# Altium footprint library SHDR4W64P0X254_1X4_1016X580X1170P.PcbLib: 1 footprints
Each footprint in its own frame and in the unit in brackets; x right, y up, seen from the top. Pads: shape width x height; smd on the part's side, far side on the other; paste and mask are expansions set on the pad; w line width, h text height; cw(c..) or ccw(c..) is an arc to the next point about the centre after c.
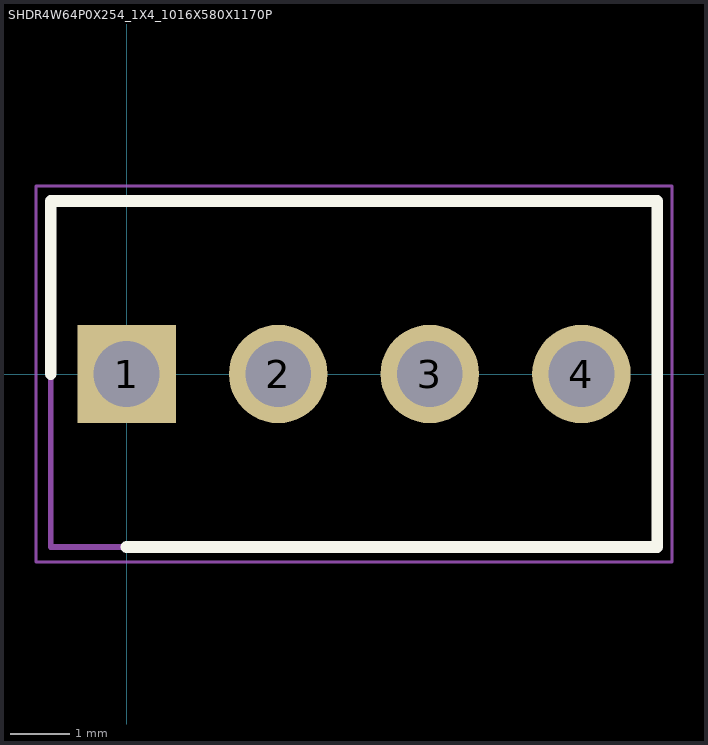
[diagram p0: the footprint, top view; thin cyan lines are the x and y axes]

## SHDR4W64P0X254_1X4_1016X580X1170P [mm]
pads (4):
  rect 1.65x1.65 / inner round 1.65 / far side rect 1.65x1.65 hole 1.1: 1(0,0)
  round 1.65 hole 1.1: 2(2.54,0) 3(5.08,0) 4(7.62,0)
Top Overlay:
  lines w0.2: -1.27,0 -1.27,2.9 8.89,2.9 8.89,-2.9 0,-2.9
Mechanical 15:
  lines w0.1: -1.27,-2.9 -1.27,2.9 8.89,2.9 8.89,-2.9 -1.27,-2.9
Mechanical 20:
  lines w0.05: -1.52,-3.15 -1.52,3.15 9.14,3.15 9.14,-3.15 -1.52,-3.15